# Altium footprint library WE-SPXO.PcbLib: 20 footprints (part 2 of 2)
Each footprint in its own frame and in the unit in brackets; x right, y up, seen from the top. Pads: shape width x height; smd on the part's side, far side on the other; paste and mask are expansions set on the pad; w line width, h text height; cw(c..) or ccw(c..) is an arc to the next point about the centre after c.
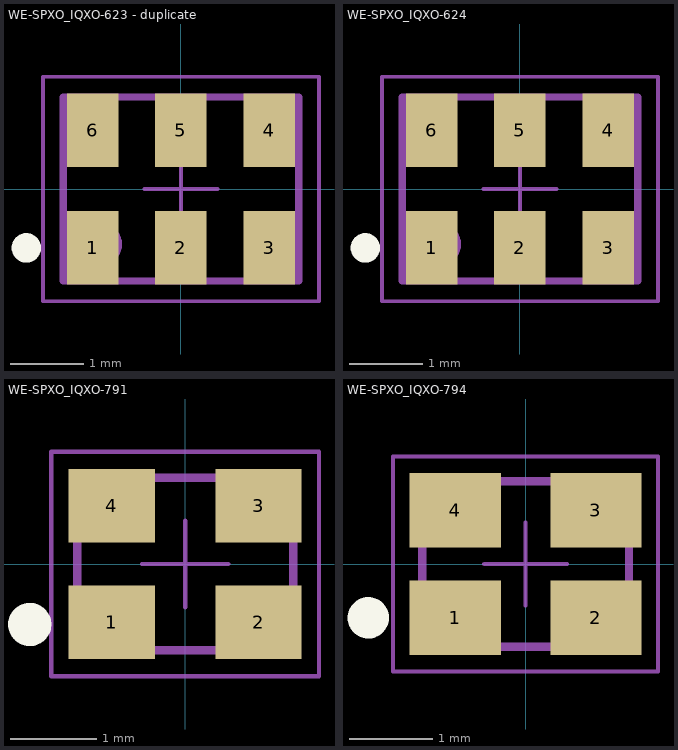
[diagram p1: the footprints below, top view; thin cyan lines are the x and y axes]

## WE-SPXO_IQXO-623 - duplicate [mm] "Crystal Oscillator, SMT, IQXO-623"
height 1.1
pads (6):
  rect 0.7x1 smd: 1(-1.2,-0.8) 2(0,-0.8) 3(1.2,-0.8) 4(1.2,0.8) 5(0,0.8) 6(-1.2,0.8)
Top Overlay:
  circle w0.2: c-2.1,-0.8 r0.1
Top Designator:
  text ".Designator" at -4.998,-0.333 h1
Top Component Outline:
  circle w0.1: c-1.1,-0.75 r0.25
  lines w0.1: -1.6,-1.25 1.6,-1.25 1.6,1.25 -1.6,1.25 -1.6,-1.25
Top 3D Body:
  circle w0.1: c-1.1,-0.75 r0.25
  lines w0.1: -1.6,-1.25 -1.6,1.25 1.6,1.25 1.6,-1.25 -1.6,-1.25
Top Courtyard:
  lines w0.05: -0.5,0 0.5,0 ; 0,-0.5 0,0.5 ; -1.875,-1.525 1.875,-1.525 1.875,1.525 -1.875,1.525 -1.875,-1.525
3D body "IQXO-623.stp": height 1.1, standoff 0, extent -1.6,-1.25 1.6,1.25

## WE-SPXO_IQXO-624 [mm] "Crystal Oscillator, SMT, IQXO-624"
height 1.1
pads (6):
  rect 0.7x1 smd: 1(-1.2,-0.8) 2(0,-0.8) 3(1.2,-0.8) 4(1.2,0.8) 5(0,0.8) 6(-1.2,0.8)
Top Overlay:
  circle w0.2: c-2.1,-0.8 r0.1
Top Designator:
  text ".Designator" at -4.998,-0.333 h1
Top Component Outline:
  circle w0.1: c-1.1,-0.75 r0.25
  lines w0.1: -1.6,-1.25 1.6,-1.25 1.6,1.25 -1.6,1.25 -1.6,-1.25
Top 3D Body:
  circle w0.1: c-1.1,-0.75 r0.25
  lines w0.1: -1.6,-1.25 -1.6,1.25 1.6,1.25 1.6,-1.25 -1.6,-1.25
Top Courtyard:
  lines w0.05: -0.5,0 0.5,0 ; 0,-0.5 0,0.5 ; -1.875,-1.525 1.875,-1.525 1.875,1.525 -1.875,1.525 -1.875,-1.525
3D body "IQXO-624.stp": height 1.1, standoff 0, extent -1.6,-1.25 1.6,1.25

## WE-SPXO_IQXO-791 [mm] "Simple Packaged Quartz Oscillator, body 2.5x2mm"
height 1
pads (4):
  rect 1x0.85 smd: 1(-0.85,-0.675) 2(0.85,-0.675) 3(0.85,0.675) 4(-0.85,0.675)
Top Overlay:
  circle w0.25: c-1.8,-0.7 r0.125
Top Designator:
  text ".Designator" at -3.499,-0.233 h0.7
Top Component Outline:
  circle w0.1: c-0.9,-0.65 r0.15
  lines w0.1: -1.25,-1 -1.25,1 1.25,1 1.25,-1 -1.25,-1
Top 3D Body:
  circle w0.1: c-0.9,-0.65 r0.15
  lines w0.1: -1.25,-1 1.25,-1 1.25,1 -1.25,1 -1.25,-1
Top Courtyard:
  lines w0.05: -0.5,0 0.5,0 ; 0,-0.5 0,0.5 ; -1.55,-1.3 -1.55,1.3 1.55,1.3 1.55,-1.3 -1.55,-1.3
3D body "FrqSPXO_IQXO-791.stp": height 0.85, standoff 0, extent -1.25,-1 1.25,1

## WE-SPXO_IQXO-794 [mm] "Simple Packaged Quartz Oscillator, body 2.5x2mm"
height 1
pads (4):
  rect 1.1x0.9 smd: 1(-0.85,-0.65) 2(0.85,-0.65) 3(0.85,0.65) 4(-0.85,0.65)
Top Overlay:
  circle w0.25: c-1.9,-0.65 r0.125
Top Designator:
  text ".Designator" at -3.499,-0.233 h0.7
Top Component Outline:
  circle w0.1: c-0.9,-0.65 r0.15
  lines w0.1: -1.25,-1 1.25,-1 1.25,1 -1.25,1 -1.25,-1
Top 3D Body:
  circle w0.1: c-0.9,-0.65 r0.15
  lines w0.1: -1.25,-1 -1.25,1 1.25,1 1.25,-1 -1.25,-1
Top Courtyard:
  lines w0.05: -0.5,0 0.5,0 ; 0,-0.5 0,0.5 ; -1.6,-1.3 1.6,-1.3 1.6,1.3 -1.6,1.3 -1.6,-1.3
3D body "FrqSPXO_IQXO-794.stp": height 0.85, standoff 0, extent -1.25,-1 1.25,1